# Altium schematic symbol library MPU9250.SchLib: 1 symbol
Pins are listed as number, name and electrical type; pins without a type are passive.

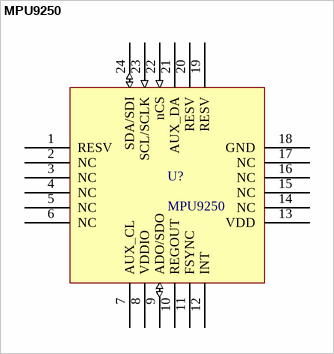
[diagram p0: symbol MPU9250]

## MPU9250
designator U?
MPU-9255 is a 9-axis  MotionTracking device that combines a 3-axis gyroscope, 3-axis accelerometer, 3-axis magnetometer
footprint MPU9250-2 (MPU9250)
pins: 1 RESV, 2 NC, 3 NC, 4 NC, 5 NC, 6 NC, 7 AUX_CL, 8 VDDIO (power), 9 ADO/SDO (io), 10 REGOUT, 11 FSYNC, 12 INT, 13 VDD (power), 14 NC, 15 NC, 16 NC, 17 NC, 18 GND (power), 19 RESV, 20 RESV, 21 AUX_DA, 22 nCS (in), 23 SCL/SCLK (in), 24 SDA/SDI (io)